# EAGLE library part WE-LAN_1000_BASETX_749020111 (library Wuerth_Elektronik_eiSos_Version_6-12)
LAN-Transformer WE-LAN 1000 Base Tx - Compliant with IEEE 802.3 standards - SMD -- Ethernet -- Power over Ethernet -- 1 Gigabit Ethernet -- Compliant with most IC's for ethernet applications like Intel, AMD, Globespan and Realtek -- Hub, Router, Switch
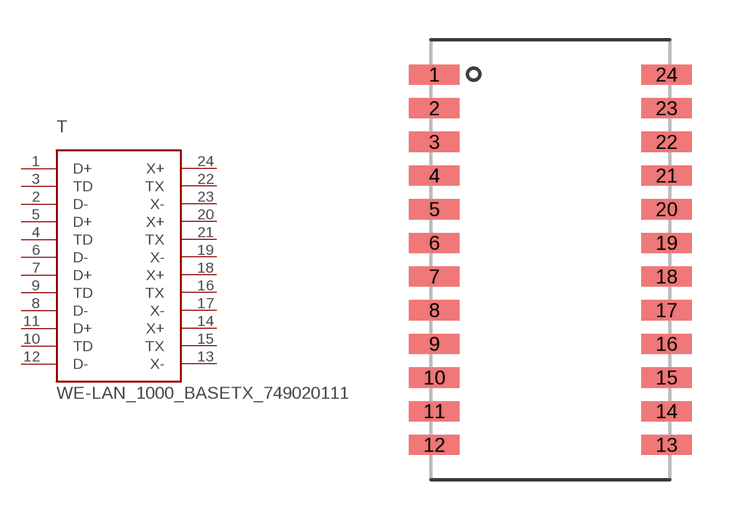
[diagram p34: symbol with the pads of WE-LAN_1000_BASETX_749020111; footprint WE-LAN_1000_BASETX_749020111]

Designator prefix T

## WE-LAN_1000_BASETX_749020111  [WE-LAN_1000_BASETX_749020111]
1  D+  pas
2  D-  pas
3  TD  pas
4  TD  pas
5  D+  pas
6  D-  pas
7  D+  pas
8  D-  pas
9  TD  pas
10  TD  pas
11  D+  pas
12  D-  pas
13  X-  pas
14  X+  pas
15  TX  pas
16  TX  pas
17  X-  pas
18  X+  pas
19  X-  pas
20  X+  pas
21  TX  pas
22  TX  pas
23  X-  pas
24  X+  pas

## Footprint WE-LAN_1000_BASETX_749020111 (pad centres in mm)
WE-LAN 1000 BaseTx
smd 1.91 x 0.76: 1 -4.38,6.985; 2 -4.38,5.715; 3 -4.38,4.445; 4 -4.38,3.175; 5 -4.38,1.905; 6 -4.38,0.635; 7 -4.38,-0.635; 8 -4.38,-1.905; 9 -4.38,-3.175; 10 -4.38,-4.445; 11 -4.38,-5.715; 12 -4.38,-6.985; 13 4.38,-6.985; 14 4.38,-5.715; 15 4.38,-4.445; 16 4.38,-3.175; 17 4.38,-1.905; 18 4.38,-0.635; 19 4.38,0.635; 20 4.38,1.905; 21 4.38,3.175; 22 4.38,4.445; 23 4.38,5.715; 24 4.38,6.985